# Altium footprint library Antenna.PcbLib: 49 footprints (part 2 of 4)
Each footprint in its own frame and in the unit in brackets; x right, y up, seen from the top. Pads: shape width x height; smd on the part's side, far side on the other; paste and mask are expansions set on the pad; w line width, h text height; cw(c..) or ccw(c..) is an arc to the next point about the centre after c.
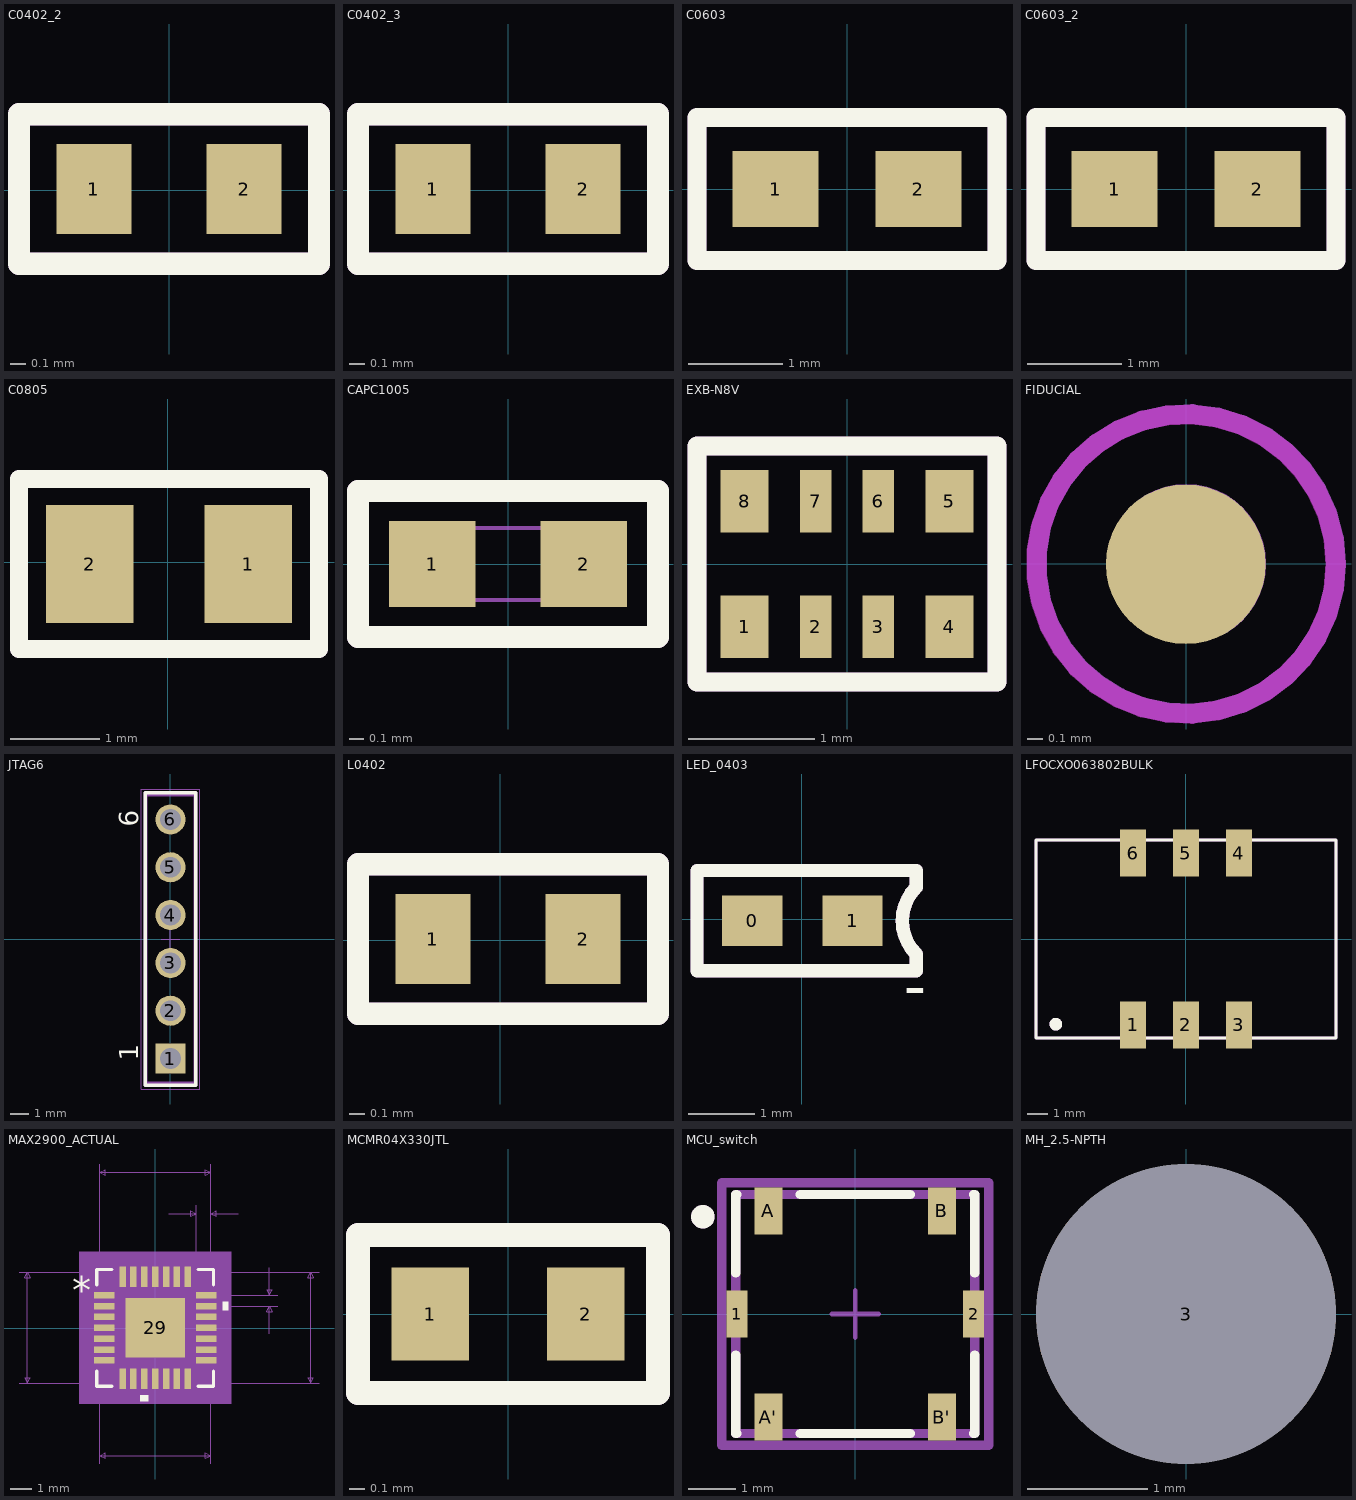
[diagram p1: the footprints below, top view; thin cyan lines are the x and y axes]

## C0402_2 [mm]
pads (2):
  rect 0.5x0.6 smd mask+0.05: 1(-0.503,0.01) 2(0.497,0.01)
Top Overlay:
  lines w0.15: -1.003,-0.49 -1.003,0.51 0.997,0.51 0.997,-0.49 -1.003,-0.49
Mechanical 3:
  lines w0.15: -1.003,-0.49 -1.003,0.51 0.997,0.51 0.997,-0.49 -1.003,-0.49
  text "'.Designator'" at -2.832,-0.208 h0.5
Top Designator:
  text ".Designator" at -7.618,-0.498 h1.52
3D body "G-155_MUR.step": height 0.56, standoff 0, extent -0.52,-0.229 0.47,0.279

## C0402_3 [mm]
pads (2):
  rect 0.5x0.6 smd mask+0.05: 1(-0.503,0.01) 2(0.497,0.01)
Top Overlay:
  lines w0.15: -1.003,-0.49 -1.003,0.51 0.997,0.51 0.997,-0.49 -1.003,-0.49
Mechanical 3:
  lines w0.15: -1.003,-0.49 -1.003,0.51 0.997,0.51 0.997,-0.49 -1.003,-0.49
  text "'.Designator'" at -2.832,-0.208 h0.5
Top Designator:
  text ".Designator" at -7.618,-0.498 h1.52
3D body "G-155_MUR.step": height 0.56, standoff 0, extent -0.52,-0.229 0.47,0.279

## C0603 [mil]
pads (2):
  rect 36x32 smd: 1(-30,0) 2(30,0)
Top Overlay:
  lines w8: -63,-30 -63,30 63,30 63,-30 -63,-30
Mechanical 3:
  lines w8: -63,-30 -63,30 63,30 63,-30 -63,-30
  text "'.Designator'" at -111.51,-7.2 h19.68
Top Designator:
  text ".Designator" at -299.9,-19.99 h60
3D body "0603 SMD Capacitor.STEP": height 11.89, standoff 0, extent -31.49,-15.74 31.5,15.75

## C0603_2 [mil]
pads (2):
  rect 36x32 smd: 1(-30,0) 2(30,0)
Top Overlay:
  lines w8: -63,-30 -63,30 63,30 63,-30 -63,-30
Mechanical 3:
  lines w8: -63,-30 -63,30 63,30 63,-30 -63,-30
  text "'.Designator'" at -111.51,-7.2 h19.68
Top Designator:
  text ".Designator" at -299.9,-19.99 h60
3D body "0603 SMD Capacitor.STEP": height 11.89, standoff 0, extent -31.49,-15.74 31.5,15.75

## C0805 [mil]
pads (2):
  rect 38.5x52 smd: 1(35.59,-0.84) 2(-34.41,-0.84)
Top Overlay:
  lines w8: -65.66,-38.34 -65.66,36.66 66.84,36.66 66.84,-38.34 -65.66,-38.34
Mechanical 3:
  lines w8: -65.66,-38.34 -65.66,36.66 66.84,36.66 66.84,-38.34 -65.66,-38.34
  text "'.Designator'" at -111.51,-7.2 h19.68
Top Designator:
  text ".Designator" at -299.9,-20.84 h60
3D body "0805 SMD Capacitor.STEP": height 30.79, standoff 0, extent -38.78,-25.45 39.96,23.76

## CAPC1005 [mm] "Chip Capacitor 1005"
height 0.014
pads (2):
  rect 0.6x0.6 smd: 1(-0.525,0) 2(0.525,0)
Top Overlay:
  lines w0.152: -1.041,-0.508 -1.041,0.508 1.041,0.508 1.041,-0.508 -1.041,-0.508
Mechanical 3:
  lines w0.152: -1.041,-0.508 -1.041,0.508 1.041,0.508 1.041,-0.508 -1.041,-0.508
  text "'.Designator'" at -2.832,-0.208 h0.5
Mechanical 7:
  lines w0.025: -0.5,-0.25 -0.5,0.25 0.5,0.25 0.5,-0.25 -0.5,-0.25
  text ".Designator" at -0.475,0.075 h0.14
  text ".Comment" at -0.475,-0.2 h0.14
Top Designator:
  text ".Designator" at -7.618,-0.508 h1.52
3D body: height 0.2, standoff 0, extent -0.571,-0.301 -0.228,0.299
3D body: height 0.2, standoff 0, extent 0.23,-0.3 0.573,0.3
3D body: height 0.2, standoff 0, extent -0.233,-0.299 0.236,0.301

## EXB-N8V [mm]
height 8.54
pads (8):
  rect 0.38x0.5 smd: 1(-0.815,-0.5) 4(0.815,-0.5) 5(0.815,0.5) 8(-0.815,0.5)
  rect 0.25x0.5 smd: 2(-0.25,-0.5) 3(0.25,-0.5) 6(0.25,0.5) 7(-0.25,0.5)
Top Overlay:
  lines w0.152: -1.194,-0.94 1.194,-0.94 1.194,0.94 -1.194,0.94 -1.194,-0.94
Mechanical 3:
  lines w0.152: -1.194,-0.94 1.194,-0.94 1.194,0.94 -1.194,0.94 -1.194,-0.94
  text "'.Designator'" at -2.832,-0.183 h0.5
Top Designator:
  text ".Designator" at -7.618,-0.508 h1.52
3D body "EXB-N8V.STEP": height 0.36, standoff -0.01, extent -1,-0.5 1,0.5

## FIDUCIAL [mil]
pads (2):
  round 40 smd paste-20 mask+20: ""(-0.1,-0.09)
  round 40 on Mech3 paste-20 mask+20: ""(0,0)
Top Layer keep-out:
  circle w5: c-0.1,-0.09 r37.5
Mechanical 3:
  circle w5: c0,0 r37.5
Top Designator:
  text ".Designator" at -299.95,-20.04 h60

## JTAG6 [mm]
pads (6):
  rect 1.6x1.6 hole 1.1: 1(0,-6.35)
  round 1.6 hole 1.1: 2(0,-3.81) 3(0,-1.27) 4(0,1.27) 5(0,3.81) 6(0,6.35)
Top Overlay:
  lines w0.2: -1.345,-7.77 -1.345,7.77 1.345,7.77 1.345,-7.77 -1.345,-7.77
  text "6" at -1.7,5.97 h1.02
  text "1" at -1.7,-6.47 h1.02
Mechanical 3:
  lines w0.2: -1.345,-7.77 -1.345,7.77 1.345,7.77 1.345,-7.77 -1.345,-7.77
  text "6" at -1.7,5.97 h1.02
  text "1" at -1.7,-6.47 h1.02
  text "'.Designator'" at 0.183,-2.832 h0.5
Top Designator:
  text ".Designator" at -8.267,-0.508 h1.52
Mechanical 13:
  lines w0.1: -1.27,-7.62 -1.27,7.62 1.27,7.62 1.27,-7.62 -1.27,-7.62
Mechanical 15:
  lines w0.05: -0.5,0 0.5,0 ; 0,-0.5 0,0.5 ; -1.545,-7.97 -1.545,7.97 1.545,7.97 1.545,-7.97 -1.545,-7.97
3D body "61300611121.stp": height 8.57, standoff -2.97, extent -1.27,-7.62 1.27,7.62

## L0402 [mm]
pads (2):
  rect 0.5x0.6 smd mask+0.05: 1(-0.448,0.007) 2(0.552,0.007)
Top Overlay:
  lines w0.15: -0.948,-0.493 1.052,-0.493 1.052,0.507 -0.948,0.507 -0.948,-0.493
Mechanical 3:
  lines w0.15: -0.948,-0.493 1.052,-0.493 1.052,0.507 -0.948,0.507 -0.948,-0.493
  text "'.Designator'" at -2.832,-0.183 h0.5
Top Designator:
  text ".Designator" at -7.618,-0.501 h1.52
3D body "0402.STEP": height 0.25, standoff 0, extent -0.448,-0.243 0.552,0.257

## LED_0403 [mil]
pads (2):
  rect 36x30 smd: 0(-29.53,-0.98) 1(30.47,-0.98)
Top Overlay:
  lines w8: -62.53,-30.98 -62.53,29.02 68.47,29.02 68.47,19.02 ccw(c88.47,-0.98) 68.47,-20.98 68.47,-30.98 -62.53,-30.98
  text "-" at 60.91,-52.87 h27.56
Mechanical 3:
  lines w8: -62.53,-30.98 -62.53,29.02 68.47,29.02 68.47,19.02 ccw(c88.47,-0.98) 68.47,-20.98 68.47,-30.98 -62.53,-30.98
  text "-" at 60.91,-52.87 h27.56
  text "'.Designator'" at -109.51,-5.2 h19.68
Top Designator:
  text ".Designator" at -297.9,-25.99 h60
3D body "AP1608.STEP": height 44.09, standoff 0.79, extent -31.02,-16.73 31.97,14.77

## LFOCXO063802BULK [mm]
pads (6):
  rect 1.25x2.25 smd: 1(-2.54,-4.12) 2(0,-4.12) 3(2.54,-4.12) 4(2.54,4.12) 5(0,4.12) 6(-2.54,4.12)
Top Overlay:
  circle w0.305: c-6.248,-4.089 r0.152
  lines w0.152: -7.2,-4.75 -7.2,4.75 7.2,4.75 7.2,-4.75 -7.2,-4.75
Mechanical 3:
  circle w0.305: c-6.248,-4.089 r0.152
  lines w0.152: -7.2,-4.75 -7.2,4.75 7.2,4.75 7.2,-4.75 -7.2,-4.75
  text "'.Designator'" at -2.782,-0.132 h0.5
Top Designator:
  text ".Designator" at -7.618,-0.508 h1.52
3D body: height 6.5, standoff 0, extent -7.2,-4.75 7.2,4.75

## MAX2900_ACTUAL [mm]
pads (29):
  rect 0.95x0.3 smd: 1(-2.334,1.51) 2(-2.334,1.01) 3(-2.334,0.51) 4(-2.334,0.01) 5(-2.334,-0.49) 6(-2.334,-0.99) 7(-2.334,-1.49) 15(2.345,-1.49) 16(2.345,-0.99) 17(2.345,-0.49) 18(2.345,0.01) 19(2.345,0.51) 20(2.345,1.01) 21(2.345,1.51)
  rect 0.3x0.95 smd: 8(-1.495,-2.33) 9(-0.995,-2.33) 10(-0.495,-2.33) 11(0.005,-2.33) 12(0.505,-2.33) 13(1.005,-2.33) 14(1.505,-2.33) 22(1.505,2.35) 23(1.005,2.35) 24(0.505,2.35) 25(0.005,2.35) 26(-0.495,2.35) 27(-0.995,2.35) 28(-1.495,2.35)
  rect 2.75x2.75 smd paste-1.384 mask+0: 29(0.005,0.01)
Top Overlay:
  region: -0.304,-3.101 -0.685,-3.101 -0.685,-3.355 -0.304,-3.355
  region: 3.117,1.201 3.371,1.201 3.371,0.82 3.117,0.82
  lines w0.152: -2.674,-1.975 -2.674,-2.669 -1.98,-2.669 ; -2.674,1.995 -2.674,2.69 -1.98,2.69 ; 1.991,-2.669 2.685,-2.669 2.685,-1.975 ; 1.991,2.69 2.685,2.69 2.685,1.995
  text "*" at -3.805,1.125 h1.27
Top Paste:
  region: -0.095,1.307 -1.292,1.307 -1.292,0.11 -0.095,0.11
  region: -0.095,-0.09 -1.292,-0.09 -1.292,-1.287 -0.095,-1.287
  region: 1.302,1.307 0.105,1.307 0.105,0.11 1.302,0.11
  region: 1.302,-0.09 0.105,-0.09 0.105,-1.287 1.302,-1.287
Mechanical 3:
  region: -0.304,-3.101 -0.685,-3.101 -0.685,-3.355 -0.304,-3.355
  region: 3.117,1.201 3.371,1.201 3.371,0.82 3.117,0.82
  lines w0.152: -2.674,-1.975 -2.674,-2.669 -1.98,-2.669 ; -2.674,1.995 -2.674,2.69 -1.98,2.69 ; 1.991,-2.669 2.685,-2.669 2.685,-1.975 ; 1.991,2.69 2.685,2.69 2.685,1.995
  text "*" at -3.805,1.125 h1.27
  text "'.Designator'" at -2.832,-0.183 h0.5
Mechanical 5:
  region: 3.498,-3.482 -3.487,-3.482 -3.487,3.503 3.498,3.503
Mechanical 7:
  lines w0.025: -6.256,-2.542 2.558,-2.542 ; -6.256,2.563 2.558,2.563 2.558,-6.251 ; -2.547,-6.251 -2.547,2.563 ; -2.547,1.51 -2.547,7.541 ; 0.628,5.255 1.898,5.255 ; 1.505,-2.542 7.537,-2.542 ; 1.505,2.563 7.537,2.563 ; 1.898,1.51 1.898,5.636 ; 2.38,1.01 5.632,1.01 ; 2.38,1.51 5.632,1.51 ; 2.558,5.636 2.558,1.51 2.558,7.541 ; 3.828,5.255 2.558,5.255 ; 5.251,-0.26 5.251,1.01 ; 5.251,2.78 5.251,1.51 ; -5.875,-2.542 -5.875,2.563 ; -5.875,-2.542 -6.002,-2.288 -5.748,-2.288 -5.875,-2.542 ; -5.875,2.563 -6.002,2.309 -5.748,2.309 -5.875,2.563 ; -2.547,-5.87 2.558,-5.87 ; -2.547,-5.87 -2.293,-5.743 -2.293,-5.997 -2.547,-5.87 ; -2.547,7.16 2.558,7.16 ; -2.547,7.16 -2.293,7.287 -2.293,7.033 -2.547,7.16 ; 1.898,5.255 1.644,5.382 1.644,5.128 1.898,5.255 ; 2.558,-5.87 2.304,-5.743 2.304,-5.997 2.558,-5.87 ; 2.558,5.255 2.812,5.382 2.812,5.128 2.558,5.255 ; 2.558,7.16 2.304,7.287 2.304,7.033 2.558,7.16 ; 5.251,1.01 5.124,0.756 5.378,0.756 5.251,1.01 ; 5.251,1.51 5.124,1.764 5.378,1.764 5.251,1.51 ; 7.156,-2.542 7.156,2.563 ; 7.156,-2.542 7.029,-2.288 7.283,-2.288 7.156,-2.542 ; 7.156,2.563 7.029,2.309 7.283,2.309 7.156,2.563
  text "Default Padstyle: RX12Y38D0T" at -8.885,-10.721 h1.27
  text "Heat Tab Padstyle: RX110Y110D0T" at -9.837,-12.245 h1.27
  text "Alt 1 Padstyle: OX60Y90D30P" at -8.567,-15.293 h1.27
  text "Alt 2 Padstyle: OX90Y60D30P" at -8.567,-16.817 h1.27
  text "0.02in/0.5mm" at 5.759,0.943 h0.64
  text "0.026in/0.66mm" at 0.005,5.763 h0.64
  text "0.201in/5.105mm" at -2.376,7.668 h0.64
  text "0.201in/5.105mm" at 7.664,-0.307 h0.64
  text "0.201in/5.105mm" at -11.145,-0.307 h0.64
  text "0.201in/5.105mm" at -2.376,-7.013 h0.64
Top Designator:
  text ".Designator" at 0.537,-5.002 h1.52
Mechanical 13:
  lines w0.025: -2.547,1.293 -1.277,2.563 ; -2.547,-2.542 2.558,-2.542 2.558,2.563 -2.547,2.563 -2.547,-2.542 ; -2.547,-1.642 -2.547,-1.337 -2.547,-1.642 ; -2.547,-1.142 -2.547,-0.837 -2.547,-1.142 ; -2.547,-0.642 -2.547,-0.337 -2.547,-0.642 ; -2.547,-0.142 -2.547,0.163 -2.547,-0.142 ; -2.547,0.358 -2.547,0.663 -2.547,0.358 ; -2.547,0.858 -2.547,1.163 -2.547,0.858 ; -2.547,1.358 -2.547,1.663 -2.547,1.358 ; -1.647,-2.542 -1.342,-2.542 -1.647,-2.542 ; -1.647,2.563 -1.342,2.563 -1.647,2.563 ; -1.147,-2.542 -0.842,-2.542 -1.147,-2.542 ; -1.147,2.563 -0.842,2.563 -1.147,2.563 ; -0.647,-2.542 -0.342,-2.542 -0.647,-2.542 ; -0.647,2.563 -0.342,2.563 -0.647,2.563 ; -0.147,-2.542 0.158,-2.542 -0.147,-2.542 ; -0.147,2.563 0.158,2.563 -0.147,2.563 ; 0.353,-2.542 0.658,-2.542 0.353,-2.542 ; 0.353,2.563 0.658,2.563 0.353,2.563 ; 0.853,-2.542 1.158,-2.542 0.853,-2.542 ; 0.853,2.563 1.158,2.563 0.853,2.563 ; 1.353,-2.542 1.658,-2.542 1.353,-2.542 ; 1.353,2.563 1.658,2.563 1.353,2.563 ; 2.558,-1.642 2.558,-1.337 2.558,-1.642 ; 2.558,-1.142 2.558,-0.837 2.558,-1.142 ; 2.558,-0.642 2.558,-0.337 2.558,-0.642 ; 2.558,-0.142 2.558,0.163 2.558,-0.142 ; 2.558,0.358 2.558,0.663 2.558,0.358 ; 2.558,0.858 2.558,1.163 2.558,0.858 ; 2.558,1.358 2.558,1.663 2.558,1.358
  text "*" at -2.204,1.125 h1.27
Mechanical 15:
  region: -1.745,-2.796 -2.801,-2.796 -2.801,-1.74 -3.131,-1.74 -3.131,1.76 -2.801,1.76 -2.801,2.817 -1.745,2.817 -1.745,3.147 1.755,3.147 1.755,2.817 2.812,2.817 2.812,1.76 3.142,1.76 3.142,-1.74 2.812,-1.74 2.812,-2.796 1.755,-2.796 1.755,-3.127 -1.745,-3.127
  lines w0.152: -3.131,-1.74 -2.801,-1.74 -2.801,-2.796 -1.745,-2.796 -1.745,-3.127 1.755,-3.127 1.755,-2.796 2.812,-2.796 2.812,-1.74 3.142,-1.74 3.142,1.76 2.812,1.76 2.812,2.817 1.755,2.817 1.755,3.147 -1.745,3.147 -1.745,2.817 -2.801,2.817 -2.801,1.76 -3.131,1.76 -3.131,-1.74
3D body: height 0.25, standoff 0, extent 0.005,0.01 0.259,0.264
3D body "21-0140L_T2855-4_MXM.step": height 0.81, standoff 0, extent -2.547,-2.543 2.559,2.563

## MCMR04X330JTL [mm]
pads (2):
  rect 0.5x0.6 smd: 1(-0.5,0) 2(0.5,0)
Top Overlay:
  lines w0.152: -0.965,-0.508 -0.965,0.508 ; -0.965,-0.508 0.965,-0.508 ; -0.965,-0.508 -0.965,0.508 ; -0.965,-0.508 0.965,-0.508 ; -0.965,0.508 0.965,0.508 ; -0.965,0.508 0.965,0.508 ; 0.965,-0.508 0.965,0.508 ; 0.965,-0.508 0.965,0.508
Mechanical 3:
  lines w0.152: -0.965,-0.508 -0.965,0.508 ; -0.965,-0.508 0.965,-0.508 ; -0.965,-0.508 -0.965,0.508 ; -0.965,-0.508 0.965,-0.508 ; -0.965,0.508 0.965,0.508 ; -0.965,0.508 0.965,0.508 ; 0.965,-0.508 0.965,0.508 ; 0.965,-0.508 0.965,0.508
  text "'.Designator'" at -2.782,-0.157 h0.5
Top Designator:
  text ".Designator" at -7.567,-0.508 h1.52
3D body "RES_MCMR04_MTC.step": height 0.41, standoff 0, extent -0.546,-0.279 0.496,0.279

## MCU_switch [mm]
pads (6):
  rect 0.45x1 smd paste+0 mask+0: 1(-2.525,0) 2(2.525,0)
  rect 0.6x1 smd paste+0 mask+0: A(-1.85,2.2) A'(-1.85,-2.2) B(1.85,2.2) B'(1.85,-2.2)
Top Overlay:
  circle w0.25: c-3.25,2.075 r0.125
  lines w0.2: -2.55,-0.875 -2.55,-2.55 -2.525,-2.55 ; -2.55,0.875 -2.55,2.55 -2.525,2.55 ; -1.175,-2.55 1.175,-2.55 ; -1.175,2.55 1.175,2.55 ; 2.525,-2.55 2.55,-2.55 2.55,-0.875 ; 2.525,2.55 2.55,2.55 2.55,0.875
Mechanical 3:
  circle w0.25: c-3.25,2.075 r0.125
  lines w0.2: -2.55,-0.875 -2.55,-2.55 -2.525,-2.55 ; -2.55,0.875 -2.55,2.55 -2.525,2.55 ; -1.175,-2.55 1.175,-2.55 ; -1.175,2.55 1.175,2.55 ; 2.525,-2.55 2.55,-2.55 2.55,-0.875 ; 2.525,2.55 2.55,2.55 2.55,0.875
  text "'.Designator'" at -2.773,-0.198 h0.5
Top 3D Body:
  lines w0.2: -2.55,-2.55 2.55,-2.55 2.55,2.55 -2.55,2.55 -2.55,-2.55
Top Courtyard:
  lines w0.2: -2.85,-2.8 2.85,-2.8 2.85,2.8 -2.85,2.8 -2.85,-2.8
Top Assembly:
  lines w0.2: -2.85,-2.8 2.85,-2.8 2.85,2.8 -2.85,2.8 -2.85,-2.8
  text ".Designator" at 0,0.188 h1
Top Component Center:
  lines w0.1: -0.5,0 0.5,0 ; 0,-0.5 0,0.5
Top Designator:
  text ".Designator" at -7.115,-0.508 h1.52
3D body "Switch_Panasonic_Electronic_Components_EVQ-PLMA15_eec.STEP": height 0.25, standoff 0, extent -2.85,-2.8 2.85,2.8

## MH_2.5-NPTH [mm]
pads (1):
  round 2.5 hole 2.5 unplated mask+1: 3(0,0)
Top Designator:
  text ".Designator" at -7.618,-0.508 h1.52